# EAGLE library part 6123XX20621_61231020621 (library Wurth_Connectors_WR-BHD)
WR-BHD 2.54 mm Male SMT Box Header Material Properties: Insulator Material PA 9T; PA9T Insulator Flammability Rating UL94 V-0 Color Black Contact Material Copper Alloy Contact Plating Gold Contact Type Stamped General Information Operating Temperature -40 up to +125 °C Compliance RoHS Working Voltage 250 V (AC) Withstanding Voltage 500 V (AC) Contact Resistance 20 mΩ RISO 1000 MΩ Pitch 2.54 mm Gender Male Certification UL Approval E323964 Packaging Properties Packaging Tape and Reel with Cap <https://www.we-online.com/components/media/o32919v209%20Family_WR-BHD_612xxx20621.jpg> Details see: www.we-online.com/en/components/products/BHD_2_54_SMT_MALE_BOX_HEADER_6120XX20621 <www.we-online.com/catalog/BHD_2_54_SMT_MALE_BOX_HEADER_6120XX20621/?utm_source=eagle_model&utm_medium=description_link&utm_campaign=eisos_eagle> Updated by Ella Wu 2022-09-06 2022 (C) Würth Elektronik
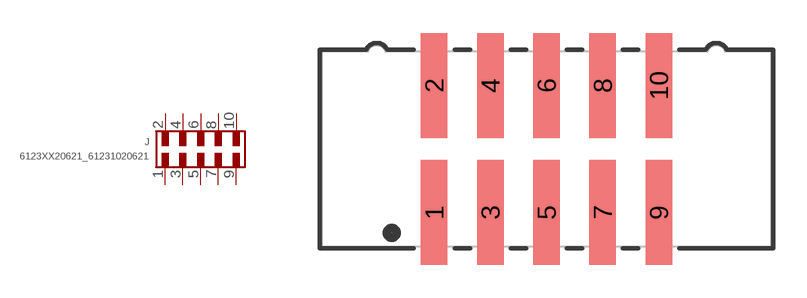
[diagram p41: symbol with the pads of 61231020621; footprint 61231020621]

Designator prefix J

## 6123XX20621_61231020621 (CONTACT-RESISTANCE: 20mOhm; DATASHEET-URL: https://www.we-online.com/redexpert/spec/61231020621?ae; GENDER: Male; IR: 3A; LENGTH: 20.32mm; MOUNT: SMT; PACKAGING: Tape and Reel with Cap; PART-NUMBER: 61231020621; PINS: 10; PITCH: 2.54mm; TYPE: Straight; VALUE: 61231020621; WORKING-VOLTAGE: 250V(AC))  [61231020621]
1  1  pas
2  2  pas
3  3  pas
4  4  pas
5  5  pas
6  6  pas
7  7  pas
8  8  pas
9  9  pas
10  10  pas

## Footprint 61231020621 (pad centres in mm)
WR-BHD 2.54 mm Male SMT Box Header 2.54 mm, SMT, 10Pins
smd 1.2 x 4.75: 1 -5.08,-2.875; 2 -5.08,2.875; 3 -2.54,-2.875; 4 -2.54,2.875; 5 0,-2.875; 6 0,2.875; 7 2.54,-2.875; 8 2.54,2.875; 9 5.08,-2.875; 10 5.08,2.875